# EAGLE library part SX1276S8S-UPDATED (library Library v12)
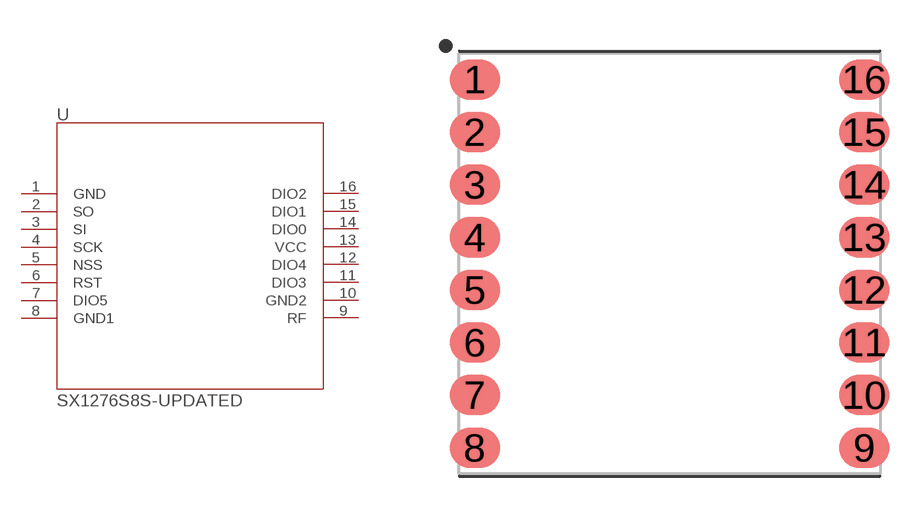
[diagram p1: symbol with the pads of FP-SX1726-MOD; footprint FP-SX1726-MOD]

Designator prefix -

## SX1276S8S-UPDATED  [FP-SX1726-MOD]
1  GND  pwr
2  SO
3  SI
4  SCK
5  NSS
6  RST
7  DIO5
8  GND1
9  RF
10  GND2
11  DIO3
12  DIO4
13  VCC
14  DIO0
15  DIO1
16  DIO2

## Footprint FP-SX1726-MOD (pad centres in mm)
16-SON (DFN), 2.00 mm pitch, 16.00 X 16.00 X 4.30 mm body 16-pin SON (DFN) package with 2.00mm pitch, with body size 16.00 X 16.00 X 4.30 mm
smd 1.917 x 1.537: 1 -7.4,7; 2 -7.4,5; 3 -7.4,3; 4 -7.4,1; 5 -7.4,-1; 6 -7.4,-3; 7 -7.4,-5; 8 -7.4,-7; 9 7.4,-7; 10 7.4,-5; 11 7.4,-3; 12 7.4,-1; 13 7.4,1; 14 7.4,3; 15 7.4,5; 16 7.4,7